# Altium schematic symbol library C0402C104K4REC.SchLib: 1 symbol
Pins are listed as number, name and electrical type; pins without a type are passive.

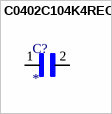
[diagram p0: symbol C0402C104K4REC]

## C0402C104K4REC
designator C?
MP: C0402C104K4REC; MF: {'manufacturer': u'KEMET'}; Package: None; Availability: Unavailable; Price: None; Value: *
footprint CAPC1005X55N
pins: 1, 2